# EAGLE library part LD39200 (library psas_c3_team05)
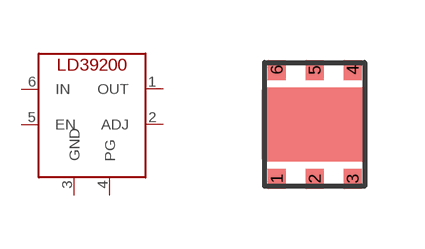
[diagram p13: symbol with the pads of LD39200; footprint LD39200]

Designator prefix -

## LD39200  [LD39200]
1  OUT  out
2  ADJ
3  GND
4  PG
5  EN
6  IN  in

## Footprint LD39200 (pad centres in mm)
smd 0.45 x 0.5: 1 -0.97,-1.388; 2 -0.02,-1.388; 3 0.93,-1.388; 4 0.93,1.339; 5 -0.02,1.339; 6 -0.97,1.339